# Altium footprint library B4P-VH.PcbLib: 1 footprints
Each footprint in its own frame and in the unit in brackets; x right, y up, seen from the top. Pads: shape width x height; smd on the part's side, far side on the other; paste and mask are expansions set on the pad; w line width, h text height; cw(c..) or ccw(c..) is an arc to the next point about the centre after c.
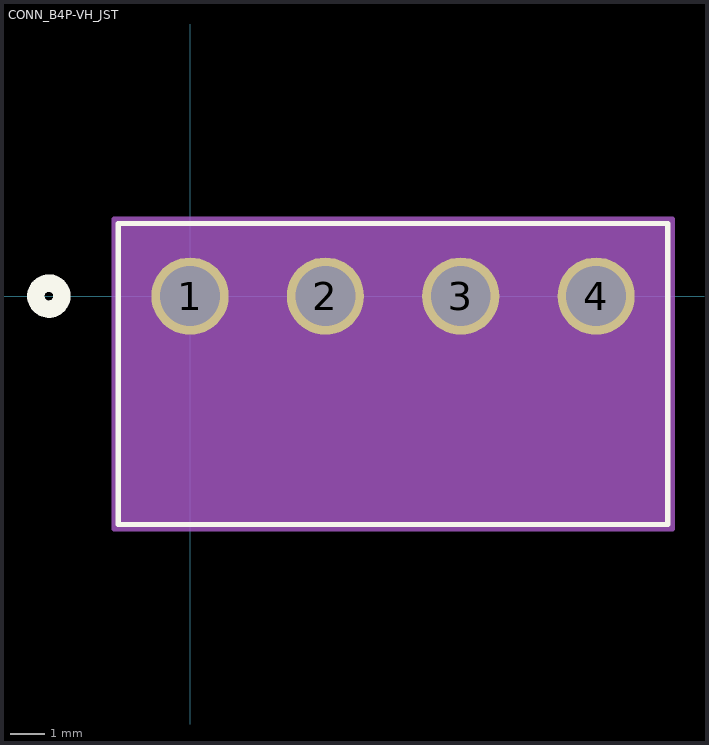
[diagram p0: the footprint, top view; thin cyan lines are the x and y axes]

## CONN_B4P-VH_JST [mil]
pads (4):
  round 89 hole 69 paste-44.5 mask+0: 1(0,0) 2(155.91,0) 3(311.81,0) 4(467.72,0)
Top Overlay:
  circle w20: c-162.64,0 r15
  lines w6: -82.64,-263.26 550.36,-263.26 550.36,83.74 -82.64,83.74 -82.64,-263.26
  text ".Designator" at 96.36,-25 h50
Bottom Overlay:
  circle w20: c-162.64,0 r15
Mechanical 13:
  circle w20: c0,0 r15
  lines w1: -77.64,-258.26 545.36,-258.26 545.36,78.74 -77.64,78.74 -77.64,-258.26
  text ".Designator" at 96.36,-25 h50
Mechanical 15:
  region: 555.36,88.74 -87.64,88.74 -87.64,-268.26 555.36,-268.26
  lines w6: -87.64,-268.26 -87.64,88.74 555.36,88.74 555.36,-268.26 -87.64,-268.26